# EAGLE library part J-13 (library conn)
13 pin connector
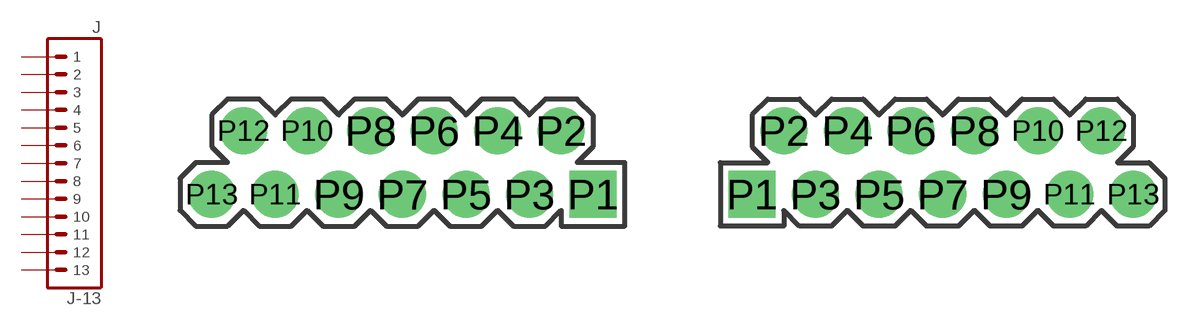
[diagram p2: symbol with the pads of J-13-100-ALT-R; footprints J-13-100-ALT-R, J-13-100-ALT-L]

Designator prefix J

## J-13-100-ALT-R  [J-13-100-ALT-R]
P1  1  pas
P2  2  pas
P3  3  pas
P4  4  pas
P5  5  pas
P6  6  pas
P7  7  pas
P8  8  pas
P9  9  pas
P10  10  pas
P11  11  pas
P12  12  pas
P13  13  pas

## J-13-100-ALT-L  [J-13-100-ALT-L]
Pads as for J-13-100-ALT-R

## Footprint J-13-100-ALT-R (pad centres in mm)
drill 1.016 pad 1.88 square: P1 5.08,0
drill 1.016 pad 1.88: P2 3.81,2.54; P3 2.54,0; P4 1.27,2.54; P5 0,0; P6 -1.27,2.54; P7 -2.54,0; P8 -3.81,2.54; P9 -5.08,0; P10 -6.35,2.54; P11 -7.62,0; P12 -8.89,2.54; P13 -10.16,0

## Footprint J-13-100-ALT-L (pad centres in mm)
drill 1.016 pad 1.88 square: P1 -7.62,-1.27
drill 1.016 pad 1.88: P2 -6.35,1.27; P3 -5.08,-1.27; P4 -3.81,1.27; P5 -2.54,-1.27; P6 -1.27,1.27; P7 0,-1.27; P8 1.27,1.27; P9 2.54,-1.27; P10 3.81,1.27; P11 5.08,-1.27; P12 6.35,1.27; P13 7.62,-1.27